# Altium schematic symbol library AT45DB.SchLib: 1 symbol
Pins are listed as number, name and electrical type; pins without a type are passive.

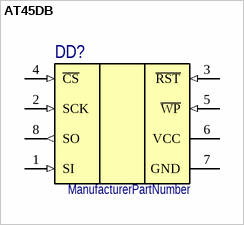
[diagram p0: symbol AT45DB]

## AT45DB
designator DD?
ManufacturerPartNumber: ManufacturerPartNumber
pins: 1 SI (in), 2 SCK (in), 3 ~{RST} (in), 4 ~{CS} (in), 5 ~{WP} (in), 6 VCC (power) "Power supply", 7 GND (power) "Ground", 8 SO (out)
1 alternate drawing of the same symbol